# Altium schematic symbol library MC100EPT21.SchLib: 1 symbol
Pins are listed as number, name and electrical type; pins without a type are passive.

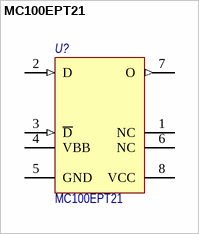
[diagram p0: symbol MC100EPT21]

## MC100EPT21
designator U?
3.3V Differential LVPECL to LVTTL Translator; Потребление: 0,1; Наименование: MC100EPT21
footprint SOIC-8
footprint VSSOP-8 (Small Outline Package, 8-pin, 3x3mm, 1.1mm height)
pins: 1 NC, 2 D (in), 3 ~{D} (in), 4 VBB (power), 5 GND (power), 6 NC, 7 O (out), 8 VCC (power)